# Altium footprint library 750310742.PCBLIB: 1 footprints
Each footprint in its own frame and in the unit in brackets; x right, y up, seen from the top. Pads: shape width x height; smd on the part's side, far side on the other; paste and mask are expansions set on the pad; w line width, h text height; cw(c..) or ccw(c..) is an arc to the next point about the centre after c.
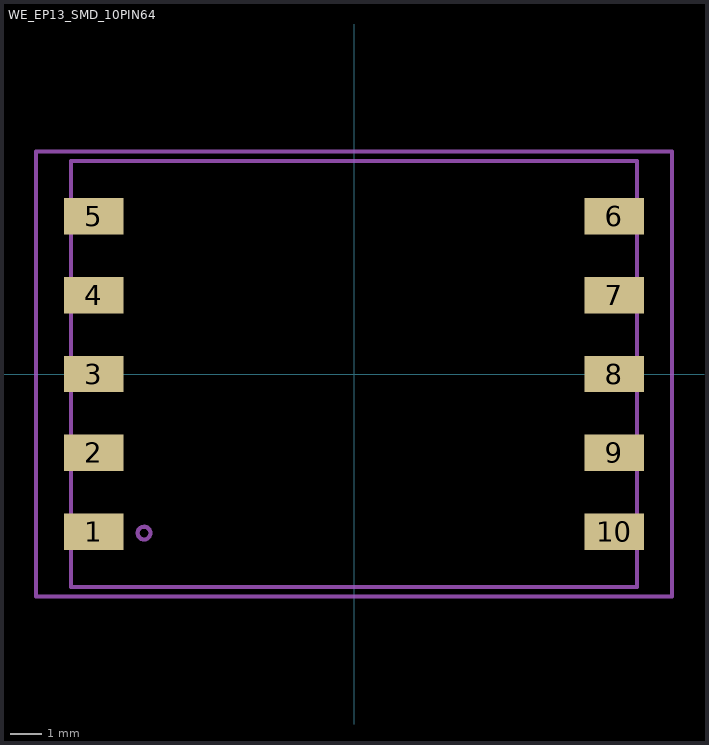
[diagram p0: the footprint, top view; thin cyan lines are the x and y axes]

## WE_EP13_SMD_10PIN64 [mil]
pads (10):
  rect 74.02x45 smd: 1(-322.05,-195.28) 2(-322.05,-97.64) 3(-322.05,0) 4(-322.05,97.64) 5(-322.05,195.28) 6(322.05,195.28) 7(322.05,97.64) 8(322.05,0) 9(322.05,-97.64) 10(322.05,-195.28)
Mechanical 8:
  circle w5: c-259.84,-196.85 r7.87
  lines w5: -350.39,-263.78 -350.39,263.78 ; 350.39,-263.78 350.39,263.78 ; -393.7,-275.59 393.7,-275.59 393.7,275.59 -393.7,275.59 -393.7,-275.59
Mechanical 22:
  lines w5: -350.39,-263.78 350.39,-263.78 ; -350.39,263.78 350.39,263.78